# Altium footprint library trafficlight.PcbLib: 15 footprints
Each footprint in its own frame and in the unit in brackets; x right, y up, seen from the top. Pads: shape width x height; smd on the part's side, far side on the other; paste and mask are expansions set on the pad; w line width, h text height; cw(c..) or ccw(c..) is an arc to the next point about the centre after c.
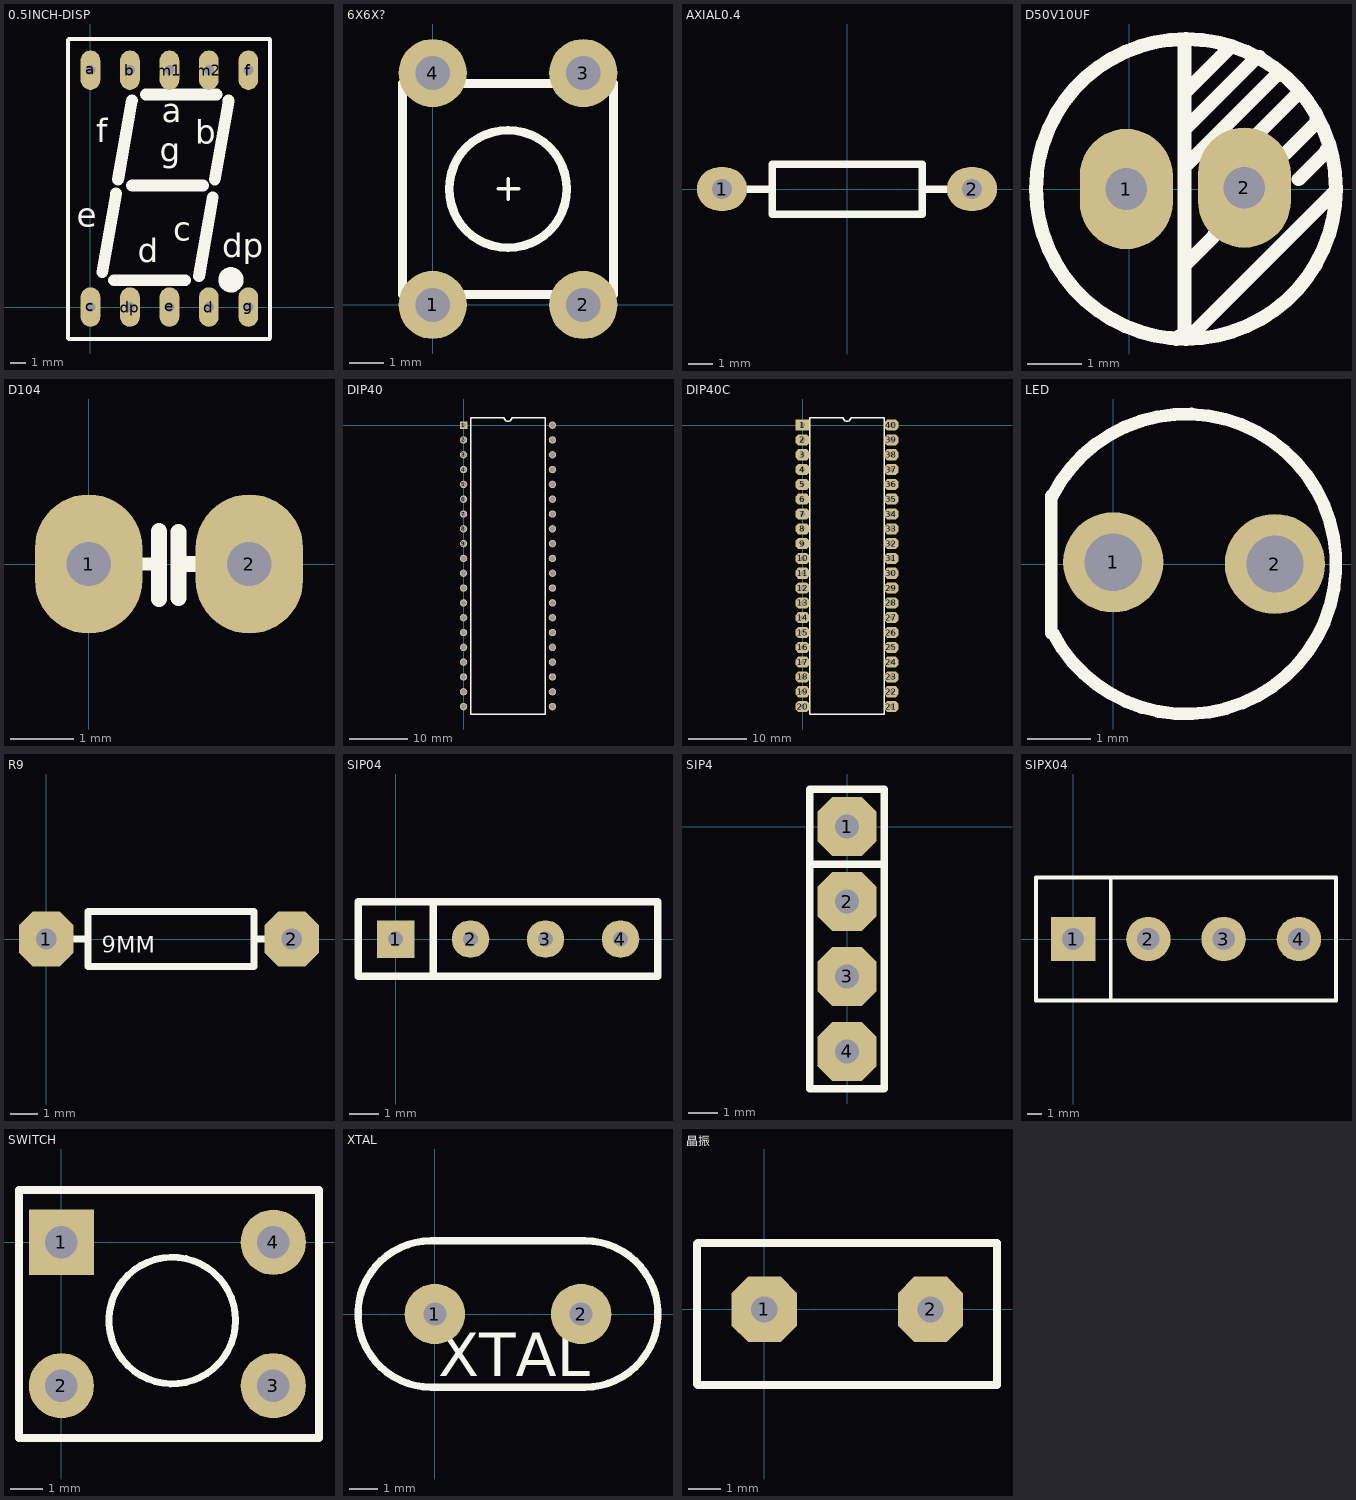
[diagram p0: the footprints below, top view; thin cyan lines are the x and y axes]

## 0.5INCH-DISP [mil]
pads (10):
  oval 50x100 hole 25: a(0,600) b(100,600) c(0,0) d(300,0) dp(100,0) e(200,0) f(400,600) g(400,0) m1(200,600) m2(300,600)
Top Overlay:
  circle w40: c356,69 r12
  lines w10: -57,-79 -57,677 ; -55,-81 454,-81 ; -55,679 454,679 ; 455,-77 455,677
  lines w30: 30,88 65,288 ; 60,68 240,68 ; 70,323 105,523 ; 105,308 285,308 ; 140,538 320,538 ; 275,78 310,278 ; 315,323 350,523
  text "f" at 15,418 h60
  text "b" at 265,413 h60
  text "g" at 175,368 h60
  text "a" at 180,468 h60
  text "d" at 120,113 h60
  text "e" at -35,203 h60
  text "dp" at 334,126 h60
  text "c" at 210,168 h60

## 6X6X? [mm]
height 1.98
pads (4):
  round 2 hole 1: 1(0,0) 2(4.42,0) 3(4.42,6.807) 4(0,6.807)
Top Overlay:
  circle w0.254: c2.21,3.404 r1.727
  lines w0.1: 1.92,3.407 2.52,3.407 ; 2.22,3.107 2.22,3.707
  lines w0.254: -0.889,0.305 5.309,0.305 5.309,6.502 -0.889,6.502 -0.889,0.305

## AXIAL0.4 [mil]
height 77.95
pads (2):
  oval 80x70 hole 32: 1(-200,0) 2(200,0)
Top Overlay:
  lines w12: -160,0 -120,0 ; 120,0 160,0 ; -120,-40 -120,40 120,40 120,-40 -120,-40

## D50V10UF [mil]
height 77.95
pads (2):
  oval 66.93x86.61 hole 30: 1(-2,0) 2(83,1)
Top Overlay:
  circle w10: c41,0 r108
  lines w10: 34,-108 36,-106 ; 40,-107 40,107 ; 40,-55 61,-34 61,-33 ; 40,16 106,82 109,82 ; 40,43 92,95 94,95 ; 40,69 71,100 71,102 ; 45,-105 149,-1 ; 90,37 121,68 ; 113,26 135,48 135,50 ; 122,7 142,27 142,28 ; 149,-1 149,0 149,-1

## D104 [mm]
height 1.98
pads (2):
  oval 1.7x2.2 hole 0.7: 1(0,0) 2(2.54,0)
Top Overlay:
  lines w0.203: -0.153,0 0.99,0
  lines w0.254: 1.109,0.518 1.11,-0.55 ; 1.42,-0.54 1.42,0.504 ; 1.551,0 2.821,0

## DIP40 [mm]
pads (40):
  rect 1.27x1.27 hole 0.9: 1(0,0)
  round 1.27 hole 0.9: 2(0,-2.54) 3(0,-5.08) 4(0,-7.62) 5(0,-10.16) 6(0,-12.7) 7(0,-15.24) 8(0,-17.78) 9(0,-20.32) 10(0,-22.86) 11(0,-25.4) 12(0,-27.94) 13(0,-30.48) 14(0,-33.02) 15(0,-35.56) 16(0,-38.1) 17(0,-40.64) 18(0,-43.18) 19(0,-45.72) 20(0,-48.26) 21(15.24,-48.26) 22(15.24,-45.72) 23(15.24,-43.18) 24(15.24,-40.64) 25(15.24,-38.1) 26(15.24,-35.56) 27(15.24,-33.02) 28(15.24,-30.48) 29(15.24,-27.94) 30(15.24,-25.4) 31(15.24,-22.86) 32(15.24,-20.32) 33(15.24,-17.78) 34(15.24,-15.24) 35(15.24,-12.7) 36(15.24,-10.16) 37(15.24,-7.62) 38(15.24,-5.08) 39(15.24,-2.54) 40(15.24,0)
Top Overlay:
  lines w0.254: 1.27,-49.53 1.27,1.27 6.985,1.27 ccw(c7.62,1.27) 8.255,1.27 13.97,1.27 13.97,-49.53 1.27,-49.53

## DIP40C [mm]
height 1.98
pads (40):
  rect 2.4x1.9 hole 0.813: 1(0,0)
  oct 2.4x1.9 hole 0.813: 2(0,-2.54) 3(0,-5.08) 4(0,-7.62) 5(0,-10.16) 6(0,-12.7) 7(0,-15.24) 8(0,-17.78) 9(0,-20.32) 10(0,-22.86) 11(0,-25.4) 12(0,-27.94) 13(0,-30.48) 14(0,-33.02) 15(0,-35.56) 16(0,-38.1) 17(0,-40.64) 18(0,-43.18) 19(0,-45.72) 20(0,-48.26) 21(15.24,-48.26) 22(15.24,-45.72) 23(15.24,-43.18) 24(15.24,-40.64) 25(15.24,-38.1) 26(15.24,-35.56) 27(15.24,-33.02) 28(15.24,-30.48) 29(15.24,-27.94) 30(15.24,-25.4) 31(15.24,-22.86) 32(15.24,-20.32) 33(15.24,-17.78) 34(15.24,-15.24) 35(15.24,-12.7) 36(15.24,-10.16) 37(15.24,-7.62) 38(15.24,-5.08) 39(15.24,-2.54) 40(15.24,0)
Top Overlay:
  lines w0.254: 1.27,-49.53 1.27,1.27 6.985,1.27 ccw(c7.62,1.27) 8.255,1.27 13.97,1.27 13.97,-49.53 1.27,-49.53

## LED [mil]
pads (2):
  round 62 hole 35.43: 1(0,1) 2(100,0)
Top Overlay:
  lines w7.87: -38.34,-42.75 -38.34,42.08 ; -37.62,42.22 cw(c45,0) -37.34,-42.75

## R9 [mm]
height 1.98
pads (2):
  oct 2x2 hole 0.762: 1(0,0) 2(9,0)
Top Overlay:
  lines w0.254: 0,0 1.524,0 ; 7.62,0 9,0 ; 1.524,-1.016 7.62,-1.016 7.62,1.016 1.524,1.016 1.524,-1.016
  text "9MM" at 2.032,-0.508 h0.6

## SIP04 [mm]
pads (4):
  rect 1.27x1.27 hole 0.5: 1(0,0)
  round 1.27 hole 0.5: 2(2.54,0) 3(5.08,0) 4(7.62,0)
Top Overlay:
  lines w0.254: 1.27,-1.27 1.27,1.27 ; -1.27,-1.27 8.89,-1.27 8.89,1.27 -1.27,1.27 -1.27,-1.27

## SIP4 [mm]
height 1.98
pads (4):
  oct 2x2 hole 0.813: 1(0,0) 2(0,-2.54) 3(0,-5.08) 4(0,-7.62)
Top Overlay:
  lines w0.254: -1.27,-1.27 1.27,-1.27 ; 1.27,-8.89 1.27,1.27 ; 1.27,-8.89 -1.27,-8.89 -1.27,1.27 1.27,1.27 ; 1.27,-8.89 1.27,1.27

## SIPX04 [mm]
pads (4):
  rect 3x3 hole 1.5: 1(0,0)
  round 3 hole 1.5: 2(5.08,0) 3(10.16,0) 4(15.24,0)
Top Overlay:
  lines w0.254: 2.54,-4.15 2.54,4.15 ; -2.5,-4.15 -2.5,4.15 17.74,4.15 17.74,-4.15 -2.5,-4.15

## SWITCH [mm]
pads (4):
  rect 2x2 hole 1: 1(0,0)
  round 2 hole 1: 2(0,-4.4) 3(6.5,-4.4) 4(6.5,0)
Top Overlay:
  circle w0.212: c3.4,-2.4 r1.942
  lines w0.254: -1.3,-6 -1.3,1.6 7.9,1.6 7.9,-6 -1.2,-6

## XTAL [mm]
height 2.5
pads (2):
  round 2.1 hole 0.8: 1(0,0) 2(5.08,0)
Top Overlay:
  lines w0.254: -0.127,-2.54 cw(c-0.127,0) -0.127,2.54 5.207,2.54 cw(c5.207,0) 5.207,-2.54 -0.127,-2.54
  text "XTAL" at 0.127,-2.159 h1.52

## 晶振 [mm]
height 1.98
pads (2):
  oct 2x2 hole 0.8: 1(0,0) 2(5.08,0)
Top Overlay:
  lines w0.254: -2.057,-2.286 -2.032,-2.311 7.112,-2.311 7.112,2.032 -2.032,2.032 -2.057,2.007 -2.057,1.778 -2.057,-2.286